# Altium schematic symbol library IC-CPU.SchLib: 13 symbols
Pins are listed as number, name and electrical type; pins without a type are passive.

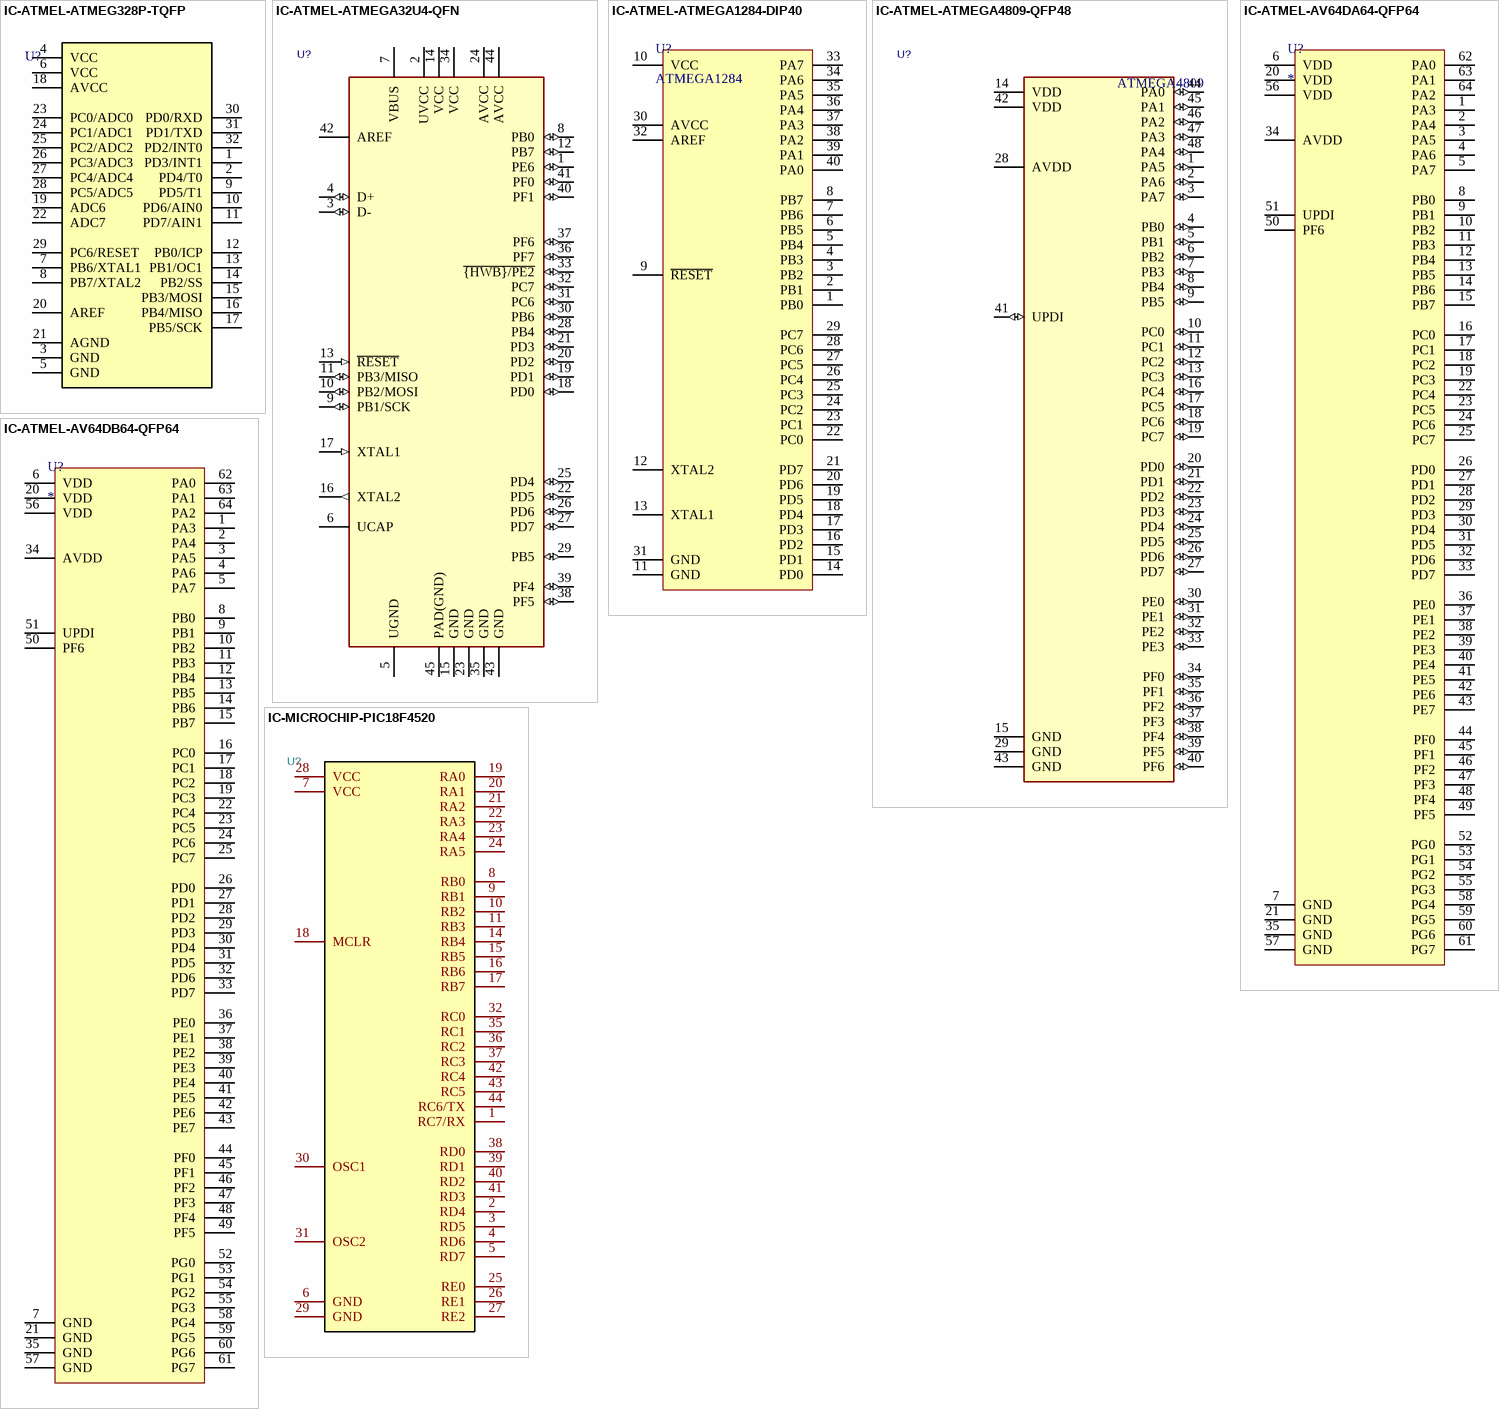
[diagram p0: symbols IC-ATMEL-ATMEG328P-TQFP to IC-MICROCHIP-PIC18F4520]

## IC-ATMEL-ATMEG328P-TQFP
designator U?  (value not drawn)
pins: 1 PD3/INT1, 2 PD4/T0, 3 GND (power), 4 VCC (power), 5 GND (power), 6 VCC (power), 7 PB6/XTAL1, 8 PB7/XTAL2, 9 PD5/T1, 10 PD6/AIN0, 11 PD7/AIN1, 12 PB0/ICP, 13 PB1/OC1, 14 PB2/SS, 15 PB3/MOSI, 16 PB4/MISO, 17 PB5/SCK, 18 AVCC (power), 19 ADC6, 20 AREF (power), 21 AGND (power), 22 ADC7, 23 PC0/ADC0, 24 PC1/ADC1, 25 PC2/ADC2, 26 PC3/ADC3, 27 PC4/ADC4, 28 PC5/ADC5, 29 PC6/RESET, 30 PD0/RXD, 31 PD1/TXD, 32 PD2/INT0

## IC-ATMEL-ATMEGA32U4-QFN
designator U?, comment ATMEGA32U4-MUR  (value not drawn)
IC,CPU,ATMEG32U4-MU,QFN44; Footprint: Package_QFP:TQFP-44_10x10mm_P0.8mm; LCSC: C45874
footprint QFN50P700X700X-44-TH520X520 (QFN, 44-Leads, Body 7.00x7.00mm, Pitch 0.50mm, Thermal Pad 5.20x5.20mm, IPC High Density)
pins: 1 PE6 (io), 2 UVCC (power), 3 D- (io), 4 D+ (io), 5 UGND, 6 UCAP, 7 VBUS (power), 8 PB0 (io), 9 PB1/SCK (io), 10 PB2/MOSI (io), 11 PB3/MISO (io), 12 PB7 (io), 13 ~{RESET} (in), 14 VCC (power), 15 GND (power), 16 XTAL2 (out), 17 XTAL1 (in), 18 PD0 (io), 19 PD1 (io), 20 PD2 (io), 21 PD3 (io), 22 PD5 (io), 23 GND hidden, 23 GND (power), 24 AVCC (power), 25 PD4 (io), 26 PD6 (io), 27 PD7 (io), 28 PB4 (io), 29 PB5 (io), 30 PB6 (io), 31 PC6 (io), 32 PC7 (io), 33 ~{{HWB}/PE2} (io), 34 VCC hidden, 34 VCC (power), 35 GND hidden, 35 GND (power), 36 PF7 (io), 37 PF6 (io), 38 PF5 (io), 39 PF4 (io), 40 PF1 (io), 41 PF0 (io), 42 AREF, 43 GND hidden, 43 GND (power), 44 AVCC hidden, 44 AVCC (power), 45 PAD(GND) (power)

## IC-ATMEL-ATMEGA1284-DIP40
designator U?, comment ATMEGA1284
IC,CPU,ATMEL,ATMEGA1284,DIP40
pins: 1 PB0, 2 PB1, 3 PB2, 4 PB3, 5 PB4, 6 PB5, 7 PB6, 8 PB7, 9 ~{RESET}, 10 VCC, 11 GND, 12 XTAL2, 13 XTAL1, 14 PD0, 15 PD1, 16 PD2, 17 PD3, 18 PD4, 19 PD5, 20 PD6, 21 PD7, 22 PC0, 23 PC1, 24 PC2, 25 PC3, 26 PC4, 27 PC5, 28 PC6, 29 PC7, 30 AVCC, 31 GND, 32 AREF, 33 PA7, 34 PA6, 35 PA5, 36 PA4, 37 PA3, 38 PA2, 39 PA1, 40 PA0

## IC-ATMEL-ATMEGA4809-QFP48
designator U?, comment ATMEGA4809
IC,CPU,ATMEGA4809,QFP48
footprint QFN50P700X700X-44-TH520X520 (QFN, 44-Leads, Body 7.00x7.00mm, Pitch 0.50mm, Thermal Pad 5.20x5.20mm, IPC High Density)
pins: 1 PA5 (io), 2 PA6 (io), 3 PA7 (io), 4 PB0 (io), 5 PB1 (io), 6 PB2 (io), 7 PB3 (io), 8 PB4 (io), 9 PB5 (io), 10 PC0 (io), 11 PC1 (io), 12 PC2 (io), 13 PC3 (io), 14 VDD (power), 15 GND (power), 16 PC4 (io), 17 PC5 (io), 18 PC6 (io), 19 PC7 (io), 20 PD0 (io), 21 PD1 (io), 22 PD2 (io), 23 GND hidden, 23 PD3 (io), 24 PD4 (io), 25 PD5 (io), 26 PD6 (io), 27 PD7 (io), 28 AVDD (power), 29 GND (power), 30 PE0 (io), 31 PE1 (io), 32 PE2 (io), 33 PE3 (io), 34 VCC hidden, 34 PF0 (io), 35 GND hidden, 35 PF1 (io), 36 PF2 (io), 37 PF3 (io), 38 PF4 (io), 39 PF5 (io), 40 PF6 (io), 41 UPDI (io), 42 VDD (power), 43 GND hidden, 43 GND (power), 44 AVCC hidden, 44 PA0 (io), 45 PA1 (io), 46 PA2 (io), 47 PA3 (io), 48 PA4 (io)

## IC-ATMEL-AV64DA64-QFP64
designator U?
IC,CPU,ATMEL,AVR64DA64,TQFP64; LCSC: C5227841
footprint QFP50P1000X1000X100-64N
pins: 1 PA3, 2 PA4, 3 PA5, 4 PA6, 5 PA7, 6 VDD, 7 GND, 8 PB0, 9 PB1, 10 PB2, 11 PB3, 12 PB4, 13 PB5, 14 PB6, 15 PB7, 16 PC0, 17 PC1, 18 PC2, 19 PC3, 20 VDD, 21 GND, 22 PC4, 23 PC5, 24 PC6, 25 PC7, 26 PD0, 27 PD1, 28 PD2, 29 PD3, 30 PD4, 31 PD5, 32 PD6, 33 PD7, 34 AVDD, 35 GND, 36 PE0, 37 PE1, 38 PE2, 39 PE3, 40 PE4, 41 PE5, 42 PE6, 43 PE7, 44 PF0, 45 PF1, 46 PF2, 47 PF3, 48 PF4, 49 PF5, 50 PF6, 51 UPDI, 52 PG0, 53 PG1, 54 PG2, 55 PG3, 56 VDD, 57 GND, 58 PG4, 59 PG5, 60 PG6, 61 PG7, 62 PA0, 63 PA1, 64 PA2

## IC-ATMEL-AV64DB64-QFP64
designator U?
IC,CPU,ATMEL,AVR64DB64,TQFP64; LCSC: C3228493
footprint QFP50P1000X1000X100-64N
pins: 1 PA3, 2 PA4, 3 PA5, 4 PA6, 5 PA7, 6 VDD, 7 GND, 8 PB0, 9 PB1, 10 PB2, 11 PB3, 12 PB4, 13 PB5, 14 PB6, 15 PB7, 16 PC0, 17 PC1, 18 PC2, 19 PC3, 20 VDD, 21 GND, 22 PC4, 23 PC5, 24 PC6, 25 PC7, 26 PD0, 27 PD1, 28 PD2, 29 PD3, 30 PD4, 31 PD5, 32 PD6, 33 PD7, 34 AVDD, 35 GND, 36 PE0, 37 PE1, 38 PE2, 39 PE3, 40 PE4, 41 PE5, 42 PE6, 43 PE7, 44 PF0, 45 PF1, 46 PF2, 47 PF3, 48 PF4, 49 PF5, 50 PF6, 51 UPDI, 52 PG0, 53 PG1, 54 PG2, 55 PG3, 56 VDD, 57 GND, 58 PG4, 59 PG5, 60 PG6, 61 PG7, 62 PA0, 63 PA1, 64 PA2

## IC-MICROCHIP-PIC18F4520
designator U?, comment PIC18F4520  (value not drawn)
IC,CPU,MICROCHIP,PIC18F4520,TQFP44; Manufacturer Part Number 1: PIC18F4520-I/PT; Parameter 1: *; LCSC: C9734; Manufacturer 1: MICROCHIP; MOUSER: 579-PIC18F4520-I/PT
footprint QFP80P1200X1200-44N (TQFP80P1200X1200 44N)
pins: 1 RC7/RX, 2 RD4, 3 RD5, 4 RD6, 5 RD7, 6 GND, 7 VCC, 8 RB0, 9 RB1, 10 RB2, 11 RB3, 14 RB4, 15 RB5, 16 RB6, 17 RB7, 18 MCLR, 19 RA0, 20 RA1, 21 RA2, 22 RA3, 23 RA4, 24 RA5, 25 RE0, 26 RE1, 27 RE2, 28 VCC, 29 GND, 30 OSC1, 31 OSC2, 32 RC0, 35 RC1, 36 RC2, 37 RC3, 38 RD0, 39 RD1, 40 RD2, 41 RD3, 42 RC4, 43 RC5, 44 RC6/TX

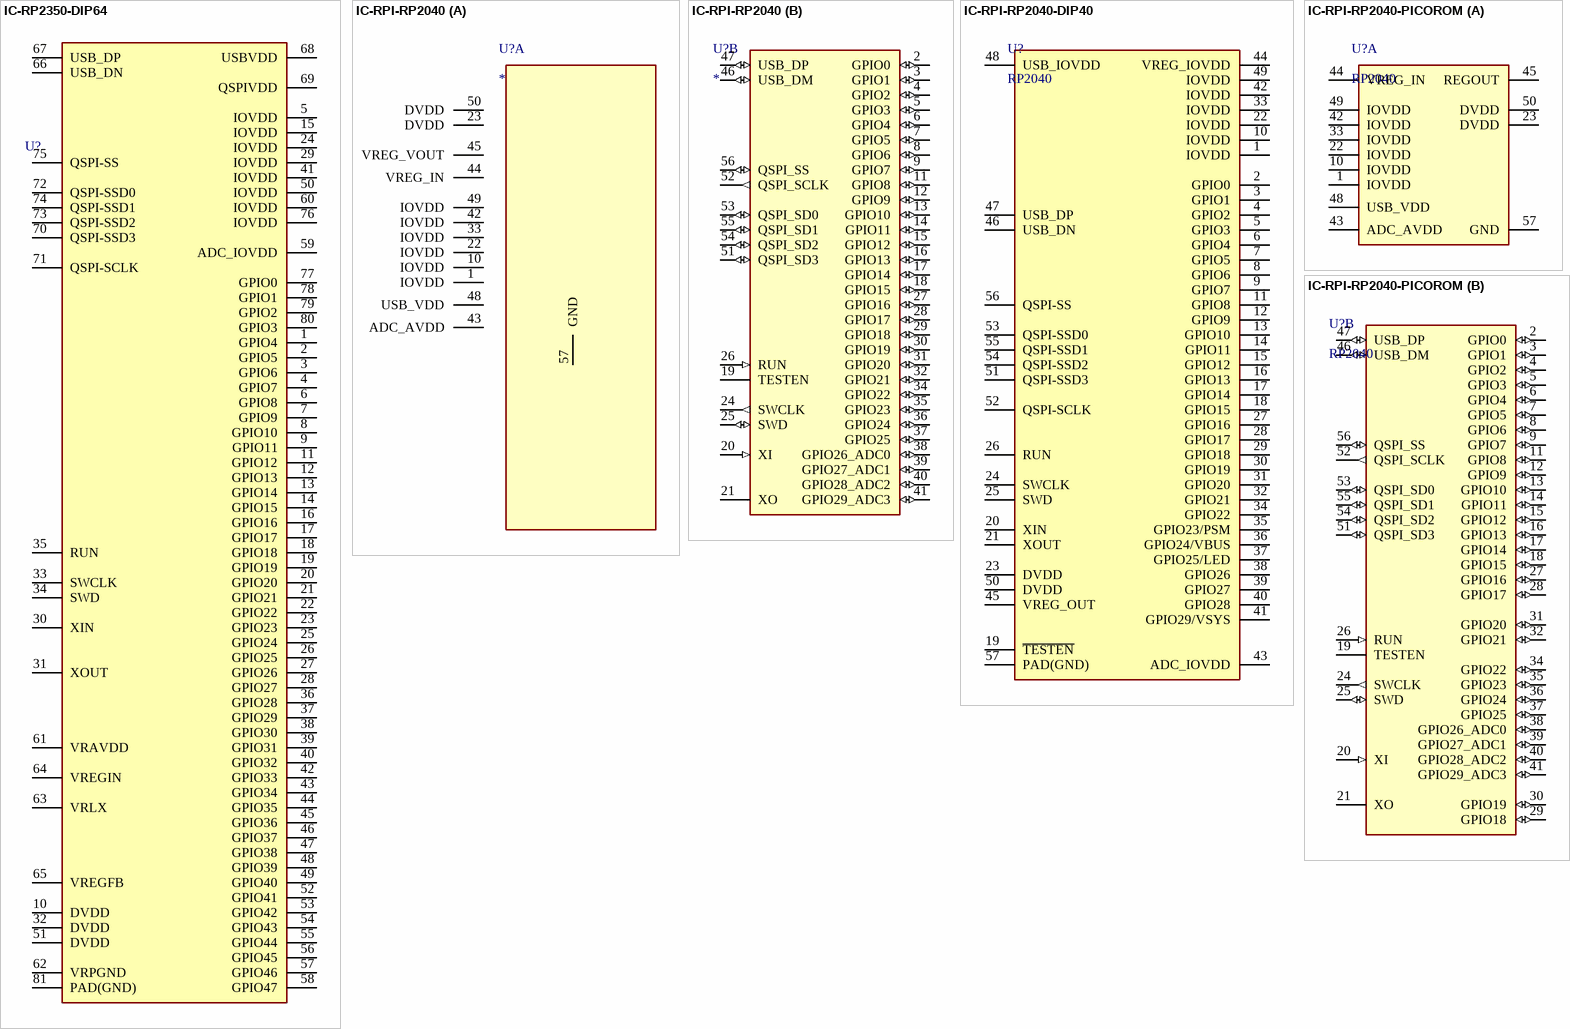
[diagram p1: symbols IC-RP2350-DIP64 to IC-RPI-RP2040-PICOROM]

## IC-RP2350-DIP64
designator U?, comment RP2350B  (value not drawn)
IC,CPU,RP2350B,QFN80; LCSC: C42415655
footprint QFN40P1000X1000X90_HS-81N (QFN, 80-Leads, Body 10.00x10.00mm, Pitch 0.40mm, Thermal Pad 3.40x3.40mm, IPC Medium Density)
pins: 1 GPIO4, 2 GPIO5, 3 GPIO6, 4 GPIO7, 5 IOVDD, 6 GPIO8, 7 GPIO9, 8 GPIO10, 9 GPIO11, 10 DVDD, 11 GPIO12, 12 GPIO13, 13 GPIO14, 14 GPIO15, 15 IOVDD, 16 GPIO16, 17 GPIO17, 18 GPIO18, 19 GPIO19, 20 GPIO20, 21 GPIO21, 22 GPIO22, 23 GPIO23, 24 IOVDD, 25 GPIO24, 26 GPIO25, 27 GPIO26, 28 GPIO27, 29 IOVDD, 30 XIN, 31 XOUT, 32 DVDD, 33 SWCLK, 34 SWD, 35 RUN, 36 GPIO28, 37 GPIO29, 38 GPIO30, 39 GPIO31, 40 GPIO32, 41 IOVDD, 42 GPIO33, 43 GPIO34, 44 GPIO35, 45 GPIO36, 46 GPIO37, 47 GPIO38, 48 GPIO39, 49 GPIO40, 50 IOVDD, 51 DVDD, 52 GPIO41, 53 GPIO42, 54 GPIO43, 55 GPIO44, 56 GPIO45, 57 GPIO46, 58 GPIO47, 59 ADC_IOVDD, 60 IOVDD, 61 VRAVDD, 62 VRPGND, 63 VRLX, 64 VREGIN, 65 VREGFB, 66 USB_DN, 67 USB_DP, 68 USBVDD, 69 QSPIVDD, 70 QSPI-SSD3, 71 QSPI-SCLK, 72 QSPI-SSD0, 73 QSPI-SSD2, 74 QSPI-SSD1, 75 QSPI-SS, 76 IOVDD, 77 GPIO0, 78 GPIO1, 79 GPIO2, 80 GPIO3, 81 PAD(GND)

## IC-RPI-RP2040
designator U?
footprint QFN40P700X700X90-56N-TH310X310
part A pins: 1 IOVDD (power), 10 IOVDD (power), 22 IOVDD (power), 23 DVDD (power), 33 IOVDD (power), 42 IOVDD (power), 43 ADC_AVDD (power), 44 VREG_IN (power), 45 VREG_VOUT (power), 48 USB_VDD (power), 49 IOVDD (power), 50 DVDD (power), 57 GND (power)
part B pins: 2 GPIO0 (io), 3 GPIO1 (io), 4 GPIO2 (io), 5 GPIO3 (io), 6 GPIO4 (io), 7 GPIO5 (io), 8 GPIO6 (io), 9 GPIO7 (io), 11 GPIO8 (io), 12 GPIO9 (io), 13 GPIO10 (io), 14 GPIO11 (io), 15 GPIO12 (io), 16 GPIO13 (io), 17 GPIO14 (io), 18 GPIO15 (io), 19 TESTEN, 20 XI (in), 21 XO, 24 SWCLK (out), 25 SWD (io), 26 RUN (in), 27 GPIO16 (io), 28 GPIO17 (io), 29 GPIO18 (io), 30 GPIO19 (io), 31 GPIO20 (io), 32 GPIO21 (io), 34 GPIO22 (io), 35 GPIO23 (io), 36 GPIO24 (io), 37 GPIO25 (io), 38 GPIO26_ADC0 (io), 39 GPIO27_ADC1 (io), 40 GPIO28_ADC2 (io), 41 GPIO29_ADC3 (io), 46 USB_DM (io), 47 USB_DP (io), 51 QSPI_SD3 (io), 52 QSPI_SCLK (out), 53 QSPI_SD0 (io), 54 QSPI_SD2 (io), 55 QSPI_SD1 (io), 56 QSPI_SS (io)

## IC-RPI-RP2040-DIP40
designator U?, comment RP2040
footprint QFN40P700X700X90-56N-TH310X310
pins: 1 IOVDD, 2 GPIO0, 3 GPIO1, 4 GPIO2, 5 GPIO3, 6 GPIO4, 7 GPIO5, 8 GPIO6, 9 GPIO7, 10 IOVDD, 11 GPIO8, 12 GPIO9, 13 GPIO10, 14 GPIO11, 15 GPIO12, 16 GPIO13, 17 GPIO14, 18 GPIO15, 19 ~{TESTEN}, 20 XIN, 21 XOUT, 22 IOVDD, 23 DVDD, 24 SWCLK, 25 SWD, 26 RUN, 27 GPIO16, 28 GPIO17, 29 GPIO18, 30 GPIO19, 31 GPIO20, 32 GPIO21, 33 IOVDD, 34 GPIO22, 35 GPIO23/PSM, 36 GPIO24/VBUS, 37 GPIO25/LED, 38 GPIO26, 39 GPIO27, 40 GPIO28, 41 GPIO29/VSYS, 42 IOVDD, 43 ADC_IOVDD, 44 VREG_IOVDD, 45 VREG_OUT, 46 USB_DN, 47 USB_DP, 48 USB_IOVDD, 49 IOVDD, 50 DVDD, 51 QSPI-SSD3, 52 QSPI-SCLK, 53 QSPI-SSD0, 54 QSPI-SSD2, 55 QSPI-SSD1, 56 QSPI-SS, 57 PAD(GND)

## IC-RPI-RP2040-PICOROM
designator U?, comment RP2040
IC,MICROCONTROLLER,RP2040, PICOROM SYMBOL; Manufacturer 1: RPI; LCSC: C2040; Manufacturer Part Number 1: RP2040
footprint QFN40P700X700X90-56N-TH310X310
part A pins: 1 IOVDD (power), 10 IOVDD (power), 22 IOVDD (power), 23 DVDD (power), 33 IOVDD (power), 42 IOVDD (power), 43 ADC_AVDD (power), 44 VREG_IN (power), 45 REGOUT (power), 48 USB_VDD (power), 49 IOVDD (power), 50 DVDD (power), 57 GND (power)
part B pins: 2 GPIO0 (io), 3 GPIO1 (io), 4 GPIO2 (io), 5 GPIO3 (io), 6 GPIO4 (io), 7 GPIO5 (io), 8 GPIO6 (io), 9 GPIO7 (io), 11 GPIO8 (io), 12 GPIO9 (io), 13 GPIO10 (io), 14 GPIO11 (io), 15 GPIO12 (io), 16 GPIO13 (io), 17 GPIO14 (io), 18 GPIO15 (io), 19 TESTEN, 20 XI (in), 21 XO, 24 SWCLK (out), 25 SWD (io), 26 RUN (in), 27 GPIO16 (io), 28 GPIO17 (io), 29 GPIO18 (io), 30 GPIO19 (io), 31 GPIO20 (io), 32 GPIO21 (io), 34 GPIO22 (io), 35 GPIO23 (io), 36 GPIO24 (io), 37 GPIO25 (io), 38 GPIO26_ADC0 (io), 39 GPIO27_ADC1 (io), 40 GPIO28_ADC2 (io), 41 GPIO29_ADC3 (io), 46 USB_DM (io), 47 USB_DP (io), 51 QSPI_SD3 (io), 52 QSPI_SCLK (out), 53 QSPI_SD0 (io), 54 QSPI_SD2 (io), 55 QSPI_SD1 (io), 56 QSPI_SS (io)

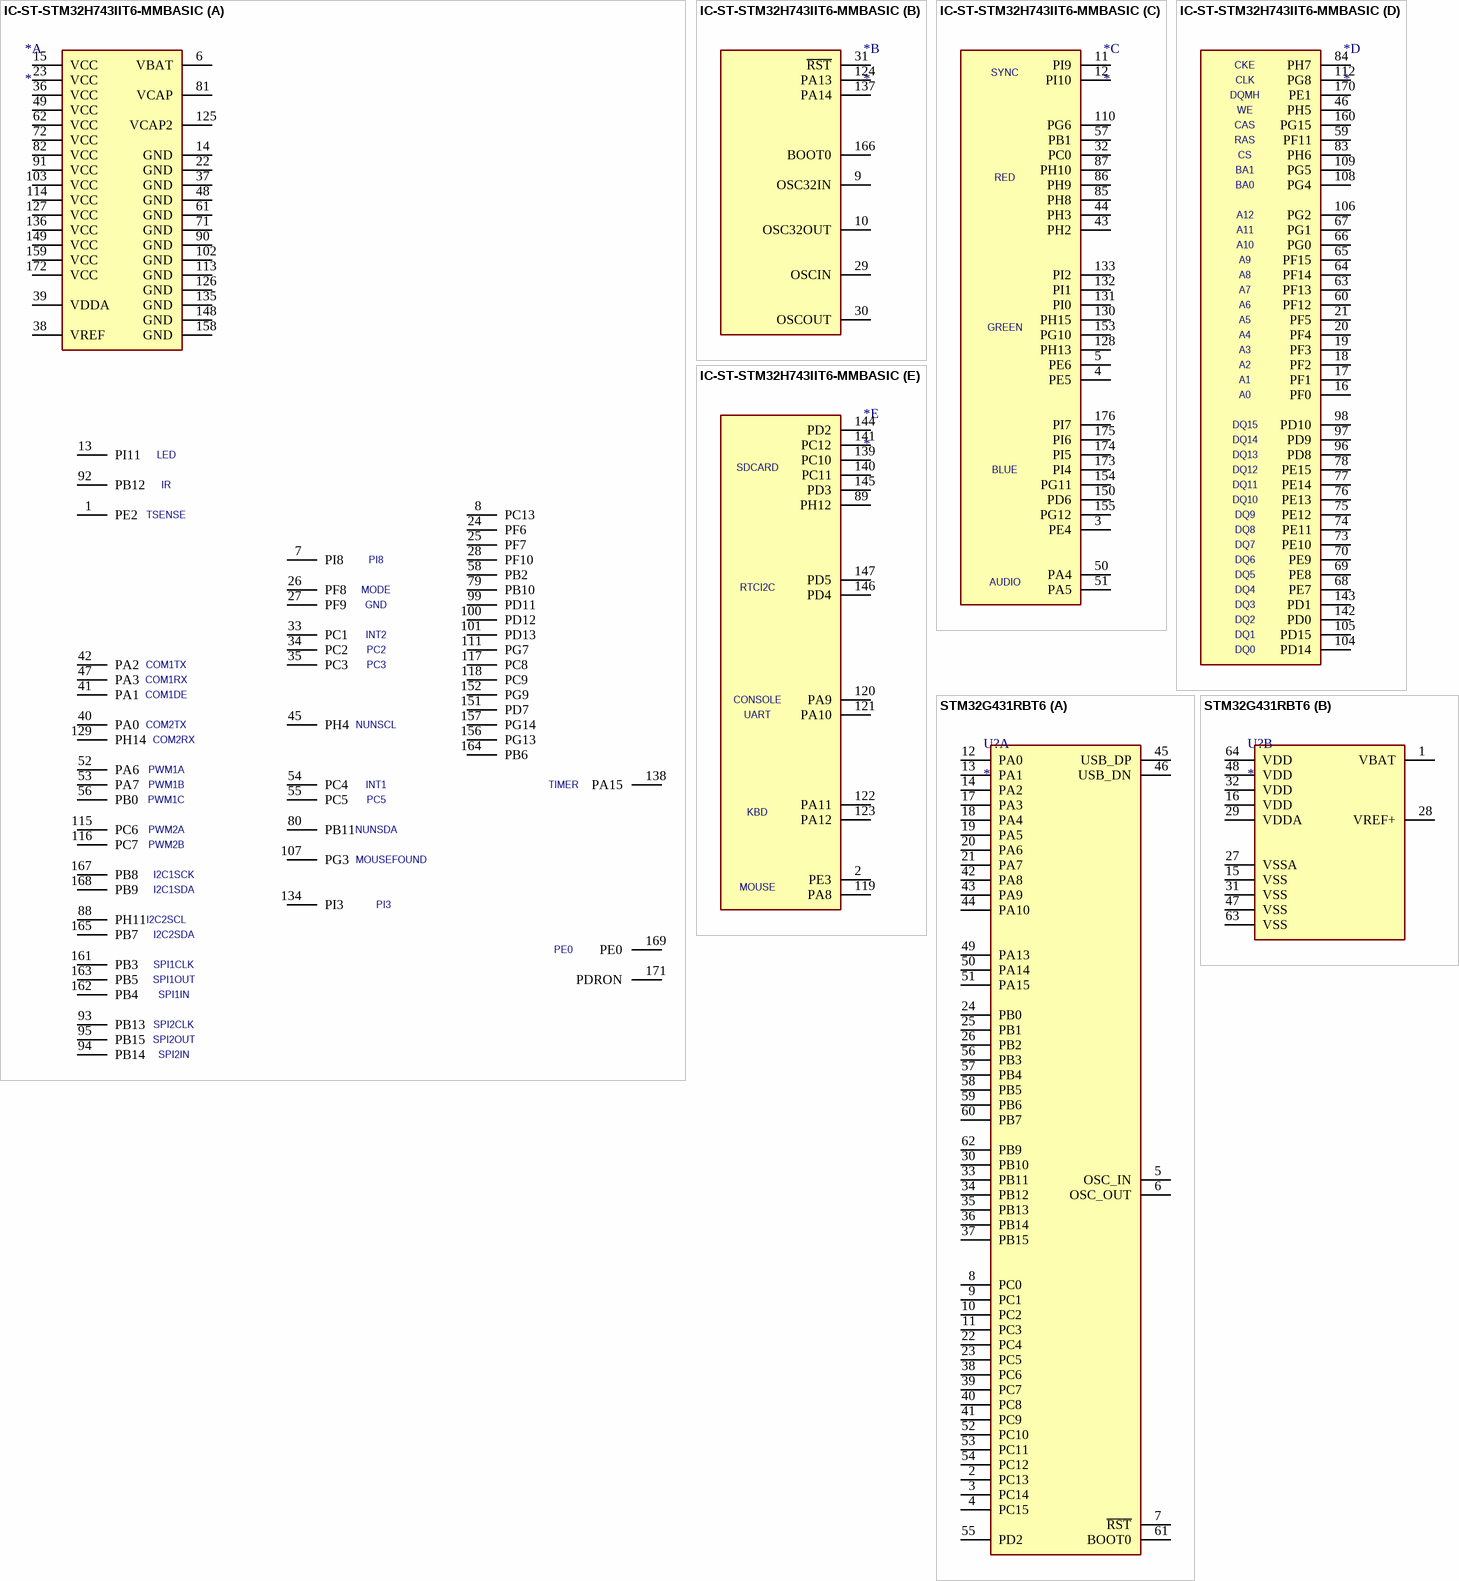
[diagram p2: symbols IC-ST-STM32H743IIT6-MMBASIC to STM32G431RBT6]

## IC-ST-STM32H743IIT6-MMBASIC
designator *
part A pins: 1 PE2, 6 VBAT, 7 PI8, 8 PC13, 13 PI11, 14 GND, 15 VCC, 22 GND, 23 VCC, 24 PF6, 25 PF7, 26 PF8, 27 PF9, 28 PF10, 33 PC1, 34 PC2, 35 PC3, 36 VCC, 37 GND, 38 VREF, 39 VDDA, 40 PA0, 41 PA1, 42 PA2, 45 PH4, 47 PA3, 48 GND, 49 VCC, 52 PA6, 53 PA7, 54 PC4, 55 PC5, 56 PB0, 58 PB2, 61 GND, 62 VCC, 71 GND, 72 VCC, 79 PB10, 80 PB11, 81 VCAP, 82 VCC, 88 PH11, 90 GND, 91 VCC, 92 PB12, 93 PB13, 94 PB14, 95 PB15, 99 PD11, 100 PD12, 101 PD13, 102 GND, 103 VCC, 107 PG3, 111 PG7, 113 GND, 114 VCC, 115 PC6, 116 PC7, 117 PC8, 118 PC9, 125 VCAP2, 126 GND, 127 VCC, 129 PH14, 134 PI3, 135 GND, 136 VCC, 138 PA15, 148 GND, 149 VCC, 151 PD7, 152 PG9, 156 PG13, 157 PG14, 158 GND, 159 VCC, 161 PB3, 162 PB4, 163 PB5, 164 PB6, 165 PB7, 167 PB8, 168 PB9, 169 PE0, 171 PDRON, 172 VCC
part B pins: 9 OSC32IN, 10 OSC32OUT, 29 OSCIN, 30 OSCOUT, 31 ~{RST}, 124 PA13, 137 PA14, 166 BOOT0
part C pins: 3 PE4, 4 PE5, 5 PE6, 11 PI9, 12 PI10, 32 PC0, 43 PH2, 44 PH3, 50 PA4, 51 PA5, 57 PB1, 85 PH8, 86 PH9, 87 PH10, 110 PG6, 128 PH13, 130 PH15, 131 PI0, 132 PI1, 133 PI2, 150 PD6, 153 PG10, 154 PG11, 155 PG12, 173 PI4, 174 PI5, 175 PI6, 176 PI7
part D pins: 16 PF0, 17 PF1, 18 PF2, 19 PF3, 20 PF4, 21 PF5, 46 PH5, 59 PF11, 60 PF12, 63 PF13, 64 PF14, 65 PF15, 66 PG0, 67 PG1, 68 PE7, 69 PE8, 70 PE9, 73 PE10, 74 PE11, 75 PE12, 76 PE13, 77 PE14, 78 PE15, 83 PH6, 84 PH7, 96 PD8, 97 PD9, 98 PD10, 104 PD14, 105 PD15, 106 PG2, 108 PG4, 109 PG5, 112 PG8, 142 PD0, 143 PD1, 160 PG15, 170 PE1
part E pins: 2 PE3, 89 PH12, 119 PA8, 120 PA9, 121 PA10, 122 PA11, 123 PA12, 139 PC10, 140 PC11, 141 PC12, 144 PD2, 145 PD3, 146 PD4, 147 PD5
part A text: LED; IR; TSENSE; MODE; INT2; COM1TX; COM1RX; COM1DE; COM2TX; NUNSCL; COM2RX; PWM1A; PWM1B; INT1; TIMER; PWM1C; PWM2A; NUNSDA; PWM2B; MOUSEFOUND; I2C1SCK; I2C1SDA; I2C2SCL; I2C2SDA; SPI1CLK; SPI1OUT; SPI1IN; SPI2CLK; SPI2OUT; SPI2IN
part C text: SYNC; RED; GREEN; BLUE; AUDIO
part D text: CKE; CLK; DQMH; WE; CAS; RAS; CS; BA1; BA0; A12; A11; A10; A9; A8; A7; A6; A5; A4; A3; A2; A1; A0; DQ15; DQ14; DQ13; DQ12; DQ11; DQ10; DQ9; DQ8; DQ7; DQ6; DQ5; DQ4; DQ3; DQ2; DQ1; DQ0
part E text: SDCARD; RTCI2C; CONSOLE; UART; KBD; MOUSE

## STM32G431RBT6
designator U?
part A pins: 2 PC13, 3 PC14, 4 PC15, 5 OSC_IN, 6 OSC_OUT, 7 ~{RST}, 8 PC0, 9 PC1, 10 PC2, 11 PC3, 12 PA0, 13 PA1, 14 PA2, 17 PA3, 18 PA4, 19 PA5, 20 PA6, 21 PA7, 22 PC4, 23 PC5, 24 PB0, 25 PB1, 26 PB2, 30 PB10, 33 PB11, 34 PB12, 35 PB13, 36 PB14, 37 PB15, 38 PC6, 39 PC7, 40 PC8, 41 PC9, 42 PA8, 43 PA9, 44 PA10, 45 USB_DP, 46 USB_DN, 49 PA13, 50 PA14, 51 PA15, 52 PC10, 53 PC11, 54 PC12, 55 PD2, 56 PB3, 57 PB4, 58 PB5, 59 PB6, 60 PB7, 61 BOOT0, 62 PB9
part B pins: 1 VBAT, 15 VSS, 16 VDD, 27 VSSA, 28 VREF+, 29 VDDA, 31 VSS, 32 VDD, 47 VSS, 48 VDD, 63 VSS, 64 VDD